# Altium integrated library Resistor_SMD_1206.IntLib: 1 symbol
Pins are listed as number, name and electrical type; pins without a type are passive.

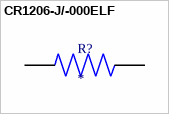
[diagram p0: symbol CR1206-J/-000ELF]

## CR1206-J/-000ELF
designator R?
CR1206 SMD Thick Film Resistor,jumper 0R | Bourns CR1206-J/-000ELF; SnapEDA_Link: https://www.snapeda.com/parts/CR1206-J/-000ELF/Bourns/view-part/?ref=snap; Package: 3216 Bourns; Value: *; MF: Bourns; MP: CR1206-J/-000ELF; Check_prices: https://www.snapeda.com/parts/CR1206-J/-000ELF/Bourns/view-part/?ref=eda
footprint RESC3216X75N
pins: 1, 2